# EAGLE library part RN42-I/RM (library RN42-I_RM)
Bluetooth 2.1 class 2 surface mount module with built in antenna
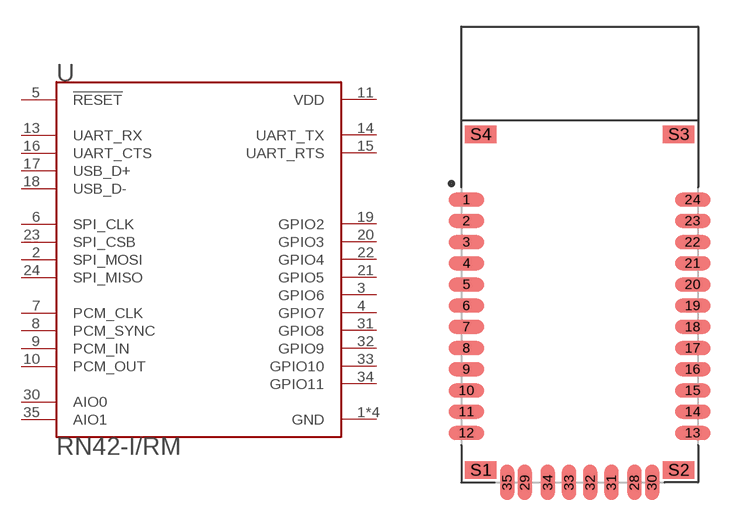
[diagram p0: symbol with the pads of XCVR_RN42-I/RM; footprint XCVR_RN42-I/RM]

Designator prefix U

## RN42-I/RM (Description: Bluetooth Module; Digi-Key_Part_Number: 740-1038-ND; Digi-Key_Purchase_URL: https://www.digikey.com/product-detail/en/microchip-technology/RN42-I-RM/740-1038-ND/2357707?utm_source=snapeda&utm_medium=aggregator&utm_campaign=symbol; MF: Microchip; MP: RN42-I/RM; Package: SMD-35 Roving Networks)  [XCVR_RN42-I/RM]
1  GND  pwr
2  SPI_MOSI  in
3  GPIO6
4  GPIO7
5  !RESET  in
6  SPI_CLK  in
7  PCM_CLK
8  PCM_SYNC
9  PCM_IN  in
10  PCM_OUT  out
11  VDD  pwr
12  GND  pwr
13  UART_RX  in
14  UART_TX  out
15  UART_RTS  out
16  UART_CTS  in
17  USB_D+
18  USB_D-
19  GPIO2
20  GPIO3
21  GPIO5
22  GPIO4
23  SPI_CSB  in
24  SPI_MISO  out
28  GND  pwr
29  GND  pwr
30  AIO0
31  GPIO8
32  GPIO9
33  GPIO10
34  GPIO11
35  AIO1

## Footprint XCVR_RN42-I/RM (pad centres in mm)
smd 2 x 0.8: 1 -6.4,6.6; 2 -6.4,5.4; 3 -6.4,4.2; 4 -6.4,3; 5 -6.4,1.8; 6 -6.4,0.6; 7 -6.4,-0.6; 8 -6.4,-1.8; 9 -6.4,-3; 10 -6.4,-4.2; 11 -6.4,-5.4; 12 -6.4,-6.6; 13 6.4,-6.6; 14 6.4,-5.4; 15 6.4,-4.2; 16 6.4,-3; 17 6.4,-1.8; 18 6.4,-0.6; 19 6.4,0.6; 20 6.4,1.8; 21 6.4,3; 22 6.4,4.2; 23 6.4,5.4; 24 6.4,6.6
smd 0.8 x 2: 28 3.1,-9.4; 29 -3.1,-9.4; 30 4.1,-9.4; 31 1.8,-9.4; 32 0.6,-9.4; 33 -0.6,-9.4; 34 -1.8,-9.4; 35 -4.1,-9.4
smd 1.8 x 1: S1 -5.6,-8.7; S2 5.6,-8.7; S3 5.6,10.3; S4 -5.6,10.3